# EAGLE library part CON-16P (library Connectors)
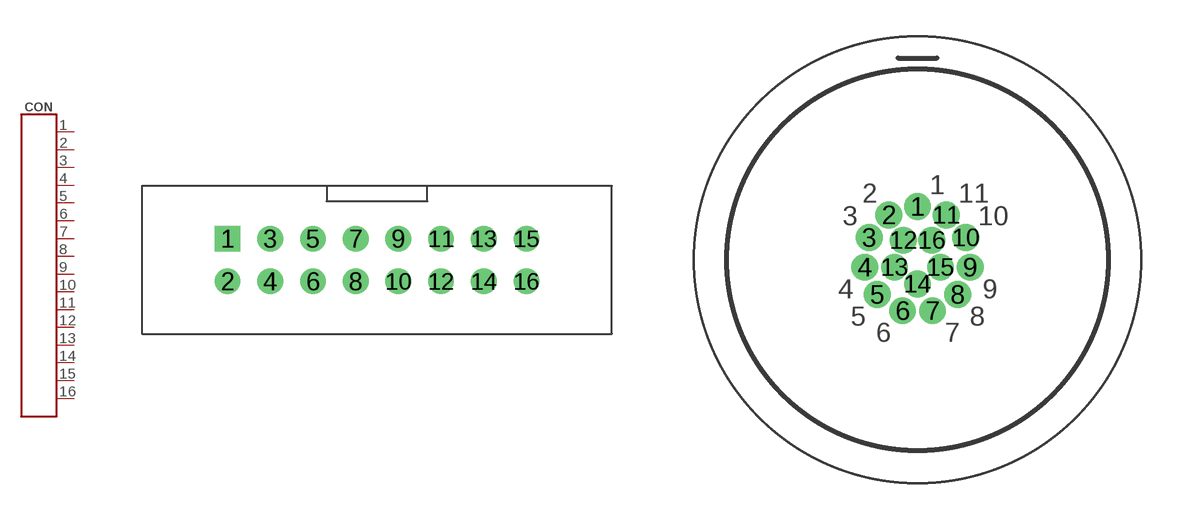
[diagram p26: symbol with the pads of DS1013-16S; footprints DS1013-16S, EGG.1B.316.CLN]

Designator prefix CON

## CON-16P-IDC (MANF: lemo; MANF#: EGG.1B.316.CLN)  [DS1013-16S]
1  1
2  2
3  3
4  4
5  5
6  6
7  7
8  8
9  9
10  10
11  11
12  12
13  13
14  14
15  15
16  16

## CON-16P-EGG.1B.316.CLN (MANF: lemo; MANF#: EGG.1B.316.CLN)  [EGG.1B.316.CLN]
Pads as for DS1013-16S

## Footprint DS1013-16S (pad centres in mm)
Drawing <https://static.chipdip.ru/lib/463/DOC002463525.pdf> 3D model <https://grabcad.com/library/idc-connector-collection-2-54-mm-1>
drill 1.02 square: 1 -8.89,1.27
drill 1.02: 2 -8.89,-1.27; 3 -6.35,1.27; 4 -6.35,-1.27; 5 -3.81,1.27; 6 -3.81,-1.27; 7 -1.27,1.27; 8 -1.27,-1.27; 9 1.27,1.27; 10 1.27,-1.27; 11 3.81,1.27; 12 3.81,-1.27; 13 6.35,1.27; 14 6.35,-1.27; 15 8.89,1.27; 16 8.89,-1.27

## Footprint EGG.1B.316.CLN (pad centres in mm)
LEMO Connector Source: http://www.lemo.com/catalog/ROW/UK_English/unipole_multipole.pdf
drill 0.6 pad 0.95: 1 0,2.2; 2 -1.189,1.851; 3 -2.001,0.914; 4 -2.178,-0.313; 5 -1.663,-1.441; 6 -0.62,-2.111; 7 0.62,-2.111; 8 1.663,-1.441; 9 2.178,-0.313; 10 2.001,0.914; 11 1.189,1.851; 12 -0.588,0.809; 13 -0.951,-0.309; 14 0,-1; 15 0.951,-0.309; 16 0.588,0.809